# Altium schematic symbol library Schlib2.SchLib: 5 symbols
Pins are listed as number, name and electrical type; pins without a type are passive.

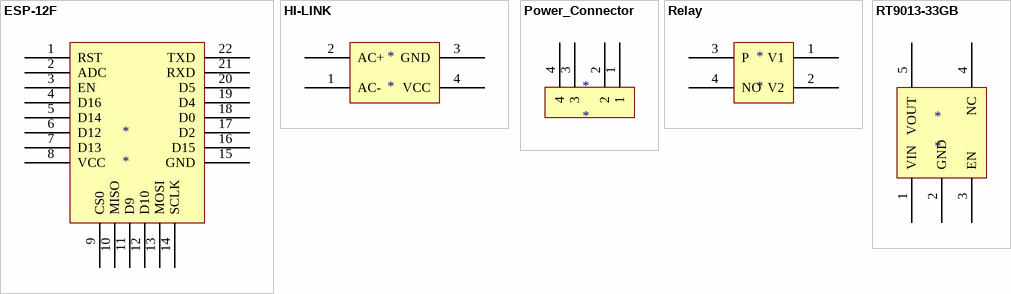
[diagram p0: symbols ESP-12F to RT9013-33GB]

## ESP-12F
designator *
footprint ESP-12F
pins: 1 RST, 2 ADC, 3 EN, 4 D16, 5 D14, 6 D12, 7 D13, 8 VCC, 9 CS0, 10 MISO, 11 D9, 12 D10, 13 MOSI, 14 SCLK, 15 GND, 16 D15, 17 D2, 18 D0, 19 D4, 20 D5, 21 RXD, 22 TXD

## HI-LINK
designator *
footprint HI-LINK
pins: 1 AC-, 2 AC+, 3 GND, 4 VCC

## Power_Connector
designator *
footprint Power_Connector
pins: 1, 2, 3, 4

## Relay
designator *
footprint Relay
pins: 1 V1, 2 V2, 3 P, 4 NO

## RT9013-33GB
designator *
footprint RT9013-33GB
pins: 1 VIN, 2 GND, 3 EN, 4 NC, 5 VOUT